# Altium integrated library Linear Technology Power Management LED Driver ICs.IntLib: 490 symbols (part 12 of 48)
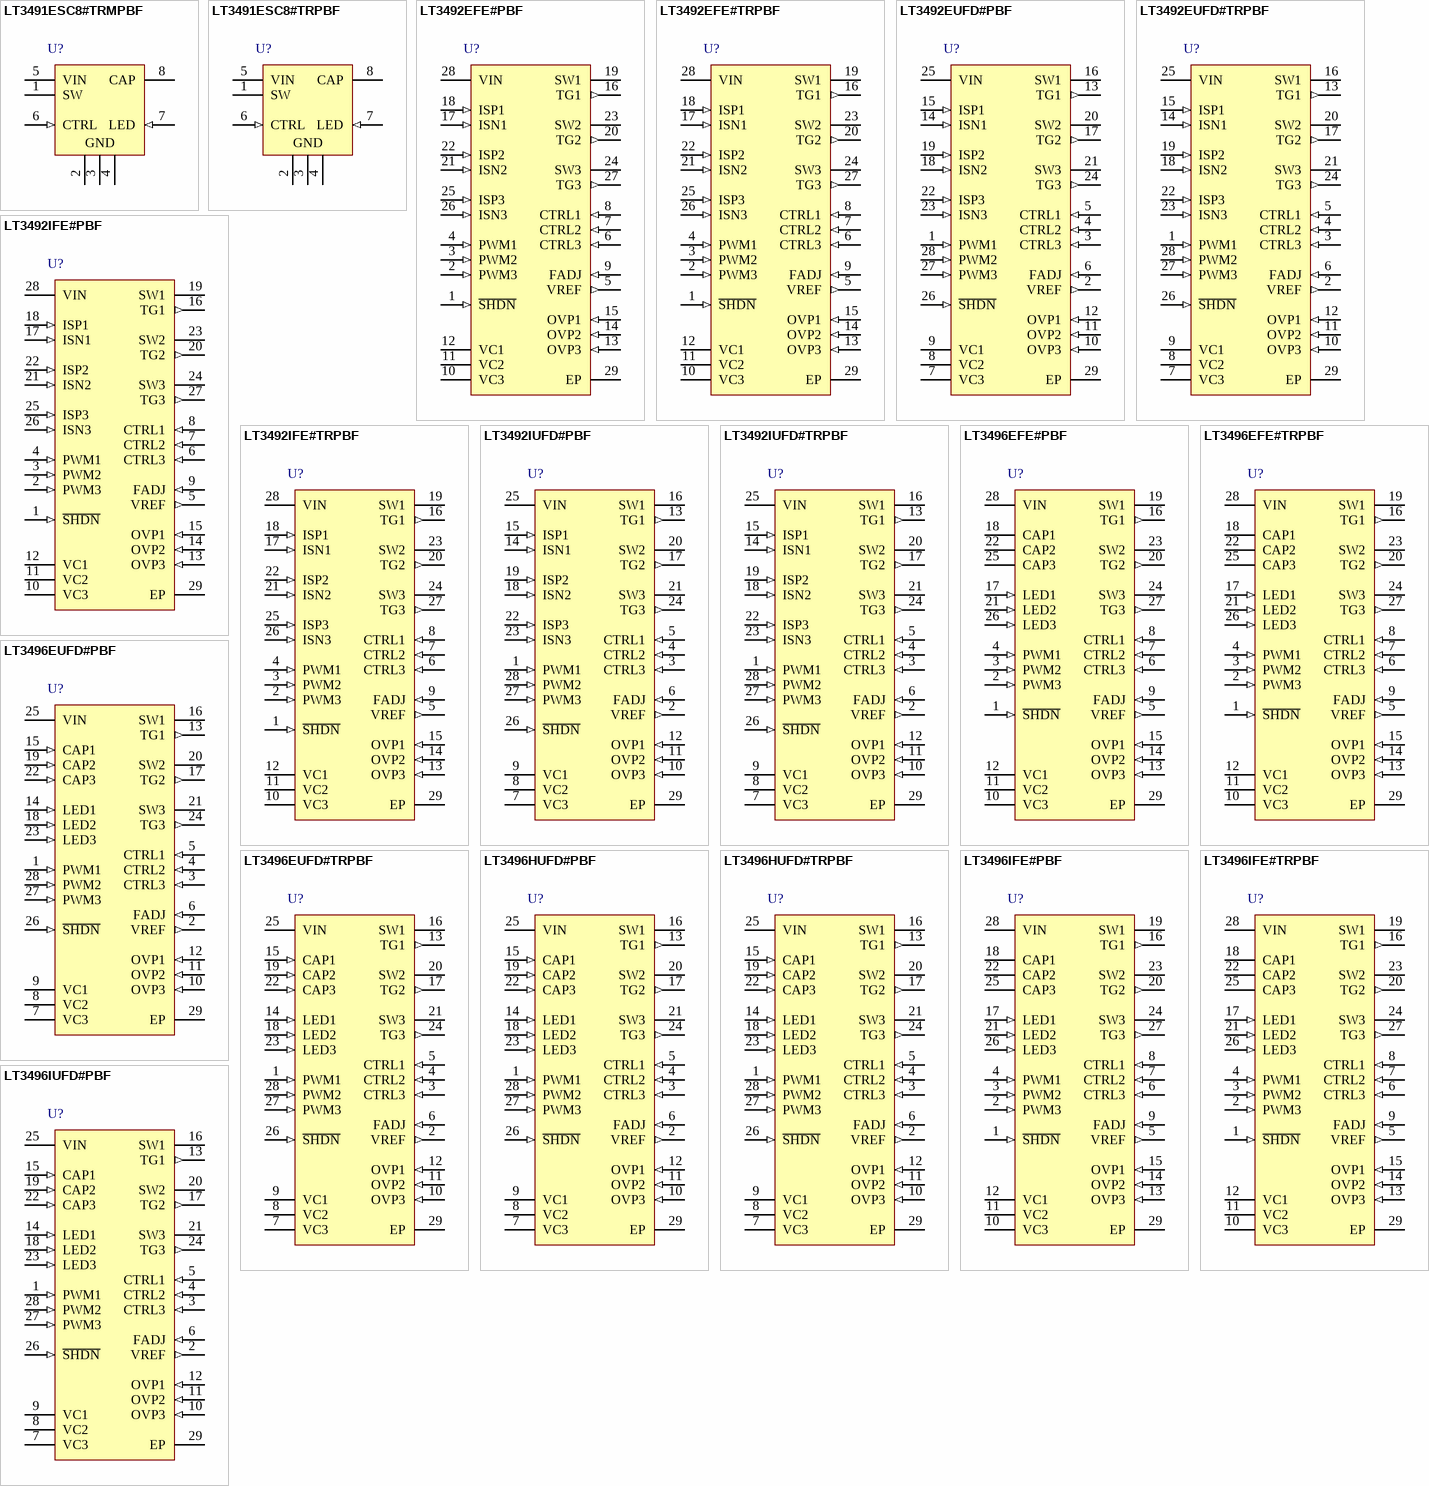
[diagram p31: symbols LT3491ESC8#TRMPBF to LT3496IUFD#PBF]

## LT3496EUFD#TRPBF
designator U?
Triple Output LED Driver, 3 to 30 V Vin, 45 V Vout MAX, 28-pin QFN (UFD-28), -40 to 125 degC, Pb-Free, Tape and Reel; Manufacturer: Linear Technology; PartNumber: LT3496EUFD#TRPBF; Topology: Boost, Buck, Buck-Boost, LED Driver; Vin Min(V): 3; DatasheetVersion: Rev. F; PackageVersion: Rev. B, 06/2010; PackageReference: UFD-28; PackageDescription: 28-Pin Plastic QFN, Body 5 x 4 mm, Pitch 0.5 mm; Supplier 1: Digi-Key; Supplier Part Number 1: LT3496EUFD#TRPBF-ND; Packing: Tape and Reel; RoHS: TRUE; Mounting Technology: Surface Mount; Code_JEDEC: MO-220; ComponentLink1Description: Manufacturer URL; ComponentLink1URL: http://www.linear.com/; ComponentLink2Description: Datasheet; ComponentLink2URL: http://cds.linear.com/docs/en/datasheet/3496ff.pdf; ComponentLink3Description: Package Specification; ComponentLink3URL: http://cds.linear.com/docs/en/packaging/QFN_28_05-08-1712.pdf
footprint LT-UFD-28_N (QFN, 28-Leads, Body 5.1x4.1mm, Pitch 0.5mm, Thermal Pad 3.65x2.65mm, IPC Medium Density)
footprint LT-UFD-28_L (QFN, 28-Leads, Body 5.1x4.1mm, Pitch 0.5mm, Thermal Pad 3.65x2.65mm, IPC High Density)
footprint LT-UFD-28_M (QFN, 28-Leads, Body 5.1x4.1mm, Pitch 0.5mm, Thermal Pad 3.65x2.65mm, IPC Low Density)
pins: 1 PWM1 (in) "Pulse Width Modulated Inputs. Signal low turns off the respective converter, reduces quiescent supply current and causes the VC pin for that converter to become high impedance. PWM pin must not be left floating; tie to VREF (See Datasheet)", 2 VREF (out) "Reference Output Pin. Can supply up to 200uA. The nominal Output Voltage is 2V.", 3 CTRL3 (in) "LED Current Adjustment Pins. Sets voltage across external sense resistor between CAP and LED pins of the respective converter. Setting CTRL voltage to be less than 1V will control the current sense voltage to be one-tenth of (See Datasheet)", 4 CTRL2 (in) "LED Current Adjustment Pins. Sets voltage across external sense resistor between CAP and LED pins of the respective converter. Setting CTRL voltage to be less than 1V will control the current sense voltage to be one-tenth of (See Datasheet)", 5 CTRL1 (in) "LED Current Adjustment Pins. Sets voltage across external sense resistor between CAP and LED pins of the respective converter. Setting CTRL voltage to be less than 1V will control the current sense voltage to be one-tenth of (See Datasheet)", 6 FADJ (in) "Switching Frequency Adjustment Pin. Setting fADJ voltage to be less than 1V will adjust switching frequency up to 2.1MHz. If fADJ voltage is higher than 1V, the default switching frequency is 2.1MHz. The fADJ pin must not be (See Datasheet)", 7 VC3 "Error Amplifier Compensation Pins. Connect a series RC from these pins to GND.", 8 VC2 "Error Amplifier Compensation Pins. Connect a series RC from these pins to GND.", 9 VC1 "Error Amplifier Compensation Pins. Connect a series RC from these pins to GND.", 10 OVP3 (in) "Open LED Protection Pins. A voltage higher than 1V on OVP turns off the internal main switch of the respective converter. Tie to ground if not used", 11 OVP2 (in) "Open LED Protection Pins. A voltage higher than 1V on OVP turns off the internal main switch of the respective converter. Tie to ground if not used", 12 OVP1 (in) "Open LED Protection Pins. A voltage higher than 1V on OVP turns off the internal main switch of the respective converter. Tie to ground if not used", 13 TG1 (out) "The Gate Driver Output Pins for Disconnnect P-Channel MOSFETs. One for each converter When the PWM pin is low, the TG pin pulls up to CAP to turn off the external MOSFET. When the PWM pin is high, the external MOSFET turn(See Datasheet)", 14 LED1 (in) "Noninverting Inputs of Current Sense Error Amplifiers. Connect directly to LED current sense resistor terminal for current sensing of the respective converter.", 15 CAP1 (in) "Inverting Inputs of Current Sense Error Amplifiers. Connect directly to other terminal of LED current sense resistor terminal of the respective converter.", 16 SW1 "Switch Pins. Collector of the internal NPN power switch of the respective converter. Connect to external inductor and anode of external Schottky rectifier of the respective converter. Minimize the metal trace area connected (See Datasheet)", 17 TG2 (out) "The Gate Driver Output Pins for Disconnnect P-Channel MOSFETs. One for each converter When the PWM pin is low, the TG pin pulls up to CAP to turn off the external MOSFET. When the PWM pin is high, the external MOSFET turn(See Datasheet)", 18 LED2 (in) "Noninverting Inputs of Current Sense Error Amplifiers. Connect directly to LED current sense resistor terminal for current sensing of the respective converter.", 19 CAP2 (in) "Inverting Inputs of Current Sense Error Amplifiers. Connect directly to other terminal of LED current sense resistor terminal of the respective converter.", 20 SW2 "Switch Pins. Collector of the internal NPN power switch of the respective converter. Connect to external inductor and anode of external Schottky rectifier of the respective converter. Minimize the metal trace area connected (See Datasheet)", 21 SW3 "Switch Pins. Collector of the internal NPN power switch of the respective converter. Connect to external inductor and anode of external Schottky rectifier of the respective converter. Minimize the metal trace area connected (See Datasheet)", 22 CAP3 (in) "Inverting Inputs of Current Sense Error Amplifiers. Connect directly to other terminal of LED current sense resistor terminal of the respective converter.", 23 LED3 (in) "Noninverting Inputs of Current Sense Error Amplifiers. Connect directly to LED current sense resistor terminal for current sensing of the respective converter.", 24 TG3 (out) "The Gate Driver Output Pins for Disconnnect P-Channel MOSFETs. One for each converter When the PWM pin is low, the TG pin pulls up to CAP to turn off the external MOSFET. When the PWM pin is high, the external MOSFET turn(See Datasheet)", 25 VIN (power) "Input Supply Pin. Must be locally bypassed. Powers the internal control circuitry.", 26 ~{SHDN} (in) "Shutdown Pin. Used to shut down the switching regulator and the internal bias circuits for all three converters. Tie to 1.5V or greater to enable the device. Tie below 0.4V to turn off the device.", 27 PWM3 (in) "Pulse Width Modulated Inputs. Signal low turns off the respective converter, reduces quiescent supply current and causes the VC pin for that converter to become high impedance. PWM pin must not be left floating; tie to VREF (See Datasheet)", 28 PWM2 (in) "Pulse Width Modulated Inputs. Signal low turns off the respective converter, reduces quiescent supply current and causes the VC pin for that converter to become high impedance. PWM pin must not be left floating; tie to VREF (See Datasheet)", 29 EP (power) "Signal Ground and Power Ground. Solder paddle directly to ground plane."

## LT3496HUFD#PBF
designator U?
Triple Output LED Driver, 3 to 30 V Vin, 45 V Vout MAX, 28-pin QFN (UFD-28), -40 to 150 degC, Pb-Free; Manufacturer: Linear Technology; PartNumber: LT3496HUFD#PBF; Topology: Boost, Buck, Buck-Boost, LED Driver; Vin Min(V): 3; DatasheetVersion: Rev. F; PackageVersion: Rev. B, 06/2010; PackageReference: UFD-28; PackageDescription: 28-Pin Plastic QFN, Body 5 x 4 mm, Pitch 0.5 mm; Supplier 1: Digi-Key; Supplier Part Number 1: LT3496HUFD#PBF-ND; Supplier 2: Newark; Supplier Part Number 2: 78R8456; RoHS: TRUE; Mounting Technology: Surface Mount; Code_JEDEC: MO-220; ComponentLink1Description: Manufacturer URL; ComponentLink1URL: http://www.linear.com/; ComponentLink2Description: Datasheet; ComponentLink2URL: http://cds.linear.com/docs/en/datasheet/3496ff.pdf; ComponentLink3Description: Package Specification; ComponentLink3URL: http://cds.linear.com/docs/en/packaging/QFN_28_05-08-1712.pdf
footprint LT-UFD-28_N (QFN, 28-Leads, Body 5.1x4.1mm, Pitch 0.5mm, Thermal Pad 3.65x2.65mm, IPC Medium Density)
footprint LT-UFD-28_L (QFN, 28-Leads, Body 5.1x4.1mm, Pitch 0.5mm, Thermal Pad 3.65x2.65mm, IPC High Density)
footprint LT-UFD-28_M (QFN, 28-Leads, Body 5.1x4.1mm, Pitch 0.5mm, Thermal Pad 3.65x2.65mm, IPC Low Density)
pins: 1 PWM1 (in) "Pulse Width Modulated Inputs. Signal low turns off the respective converter, reduces quiescent supply current and causes the VC pin for that converter to become high impedance. PWM pin must not be left floating; tie to VREF (See Datasheet)", 2 VREF (out) "Reference Output Pin. Can supply up to 200uA. The nominal Output Voltage is 2V.", 3 CTRL3 (in) "LED Current Adjustment Pins. Sets voltage across external sense resistor between CAP and LED pins of the respective converter. Setting CTRL voltage to be less than 1V will control the current sense voltage to be one-tenth of (See Datasheet)", 4 CTRL2 (in) "LED Current Adjustment Pins. Sets voltage across external sense resistor between CAP and LED pins of the respective converter. Setting CTRL voltage to be less than 1V will control the current sense voltage to be one-tenth of (See Datasheet)", 5 CTRL1 (in) "LED Current Adjustment Pins. Sets voltage across external sense resistor between CAP and LED pins of the respective converter. Setting CTRL voltage to be less than 1V will control the current sense voltage to be one-tenth of (See Datasheet)", 6 FADJ (in) "Switching Frequency Adjustment Pin. Setting fADJ voltage to be less than 1V will adjust switching frequency up to 2.1MHz. If fADJ voltage is higher than 1V, the default switching frequency is 2.1MHz. The fADJ pin must not be (See Datasheet)", 7 VC3 "Error Amplifier Compensation Pins. Connect a series RC from these pins to GND.", 8 VC2 "Error Amplifier Compensation Pins. Connect a series RC from these pins to GND.", 9 VC1 "Error Amplifier Compensation Pins. Connect a series RC from these pins to GND.", 10 OVP3 (in) "Open LED Protection Pins. A voltage higher than 1V on OVP turns off the internal main switch of the respective converter. Tie to ground if not used", 11 OVP2 (in) "Open LED Protection Pins. A voltage higher than 1V on OVP turns off the internal main switch of the respective converter. Tie to ground if not used", 12 OVP1 (in) "Open LED Protection Pins. A voltage higher than 1V on OVP turns off the internal main switch of the respective converter. Tie to ground if not used", 13 TG1 (out) "The Gate Driver Output Pins for Disconnnect P-Channel MOSFETs. One for each converter When the PWM pin is low, the TG pin pulls up to CAP to turn off the external MOSFET. When the PWM pin is high, the external MOSFET turn(See Datasheet)", 14 LED1 (in) "Noninverting Inputs of Current Sense Error Amplifiers. Connect directly to LED current sense resistor terminal for current sensing of the respective converter.", 15 CAP1 (in) "Inverting Inputs of Current Sense Error Amplifiers. Connect directly to other terminal of LED current sense resistor terminal of the respective converter.", 16 SW1 "Switch Pins. Collector of the internal NPN power switch of the respective converter. Connect to external inductor and anode of external Schottky rectifier of the respective converter. Minimize the metal trace area connected (See Datasheet)", 17 TG2 (out) "The Gate Driver Output Pins for Disconnnect P-Channel MOSFETs. One for each converter When the PWM pin is low, the TG pin pulls up to CAP to turn off the external MOSFET. When the PWM pin is high, the external MOSFET turn(See Datasheet)", 18 LED2 (in) "Noninverting Inputs of Current Sense Error Amplifiers. Connect directly to LED current sense resistor terminal for current sensing of the respective converter.", 19 CAP2 (in) "Inverting Inputs of Current Sense Error Amplifiers. Connect directly to other terminal of LED current sense resistor terminal of the respective converter.", 20 SW2 "Switch Pins. Collector of the internal NPN power switch of the respective converter. Connect to external inductor and anode of external Schottky rectifier of the respective converter. Minimize the metal trace area connected (See Datasheet)", 21 SW3 "Switch Pins. Collector of the internal NPN power switch of the respective converter. Connect to external inductor and anode of external Schottky rectifier of the respective converter. Minimize the metal trace area connected (See Datasheet)", 22 CAP3 (in) "Inverting Inputs of Current Sense Error Amplifiers. Connect directly to other terminal of LED current sense resistor terminal of the respective converter.", 23 LED3 (in) "Noninverting Inputs of Current Sense Error Amplifiers. Connect directly to LED current sense resistor terminal for current sensing of the respective converter.", 24 TG3 (out) "The Gate Driver Output Pins for Disconnnect P-Channel MOSFETs. One for each converter When the PWM pin is low, the TG pin pulls up to CAP to turn off the external MOSFET. When the PWM pin is high, the external MOSFET turn(See Datasheet)", 25 VIN (power) "Input Supply Pin. Must be locally bypassed. Powers the internal control circuitry.", 26 ~{SHDN} (in) "Shutdown Pin. Used to shut down the switching regulator and the internal bias circuits for all three converters. Tie to 1.5V or greater to enable the device. Tie below 0.4V to turn off the device.", 27 PWM3 (in) "Pulse Width Modulated Inputs. Signal low turns off the respective converter, reduces quiescent supply current and causes the VC pin for that converter to become high impedance. PWM pin must not be left floating; tie to VREF (See Datasheet)", 28 PWM2 (in) "Pulse Width Modulated Inputs. Signal low turns off the respective converter, reduces quiescent supply current and causes the VC pin for that converter to become high impedance. PWM pin must not be left floating; tie to VREF (See Datasheet)", 29 EP (power) "Signal Ground and Power Ground. Solder paddle directly to ground plane."

## LT3496HUFD#TRPBF
designator U?
Triple Output LED Driver, 3 to 30 V Vin, 45 V Vout MAX, 28-pin QFN (UFD-28), -40 to 150 degC, Pb-Free, Tape and Reel; Manufacturer: Linear Technology; PartNumber: LT3496HUFD#TRPBF; Topology: Boost, Buck, Buck-Boost, LED Driver; Vin Min(V): 3; DatasheetVersion: Rev. F; PackageVersion: Rev. B, 06/2010; PackageReference: UFD-28; PackageDescription: 28-Pin Plastic QFN, Body 5 x 4 mm, Pitch 0.5 mm; Supplier 1: Digi-Key; Supplier Part Number 1: LT3496HUFD#TRPBF-ND; Packing: Tape and Reel; RoHS: TRUE; Mounting Technology: Surface Mount; Code_JEDEC: MO-220; ComponentLink1Description: Manufacturer URL; ComponentLink1URL: http://www.linear.com/; ComponentLink2Description: Datasheet; ComponentLink2URL: http://cds.linear.com/docs/en/datasheet/3496ff.pdf; ComponentLink3Description: Package Specification; ComponentLink3URL: http://cds.linear.com/docs/en/packaging/QFN_28_05-08-1712.pdf
footprint LT-UFD-28_N (QFN, 28-Leads, Body 5.1x4.1mm, Pitch 0.5mm, Thermal Pad 3.65x2.65mm, IPC Medium Density)
footprint LT-UFD-28_L (QFN, 28-Leads, Body 5.1x4.1mm, Pitch 0.5mm, Thermal Pad 3.65x2.65mm, IPC High Density)
footprint LT-UFD-28_M (QFN, 28-Leads, Body 5.1x4.1mm, Pitch 0.5mm, Thermal Pad 3.65x2.65mm, IPC Low Density)
pins: 1 PWM1 (in) "Pulse Width Modulated Inputs. Signal low turns off the respective converter, reduces quiescent supply current and causes the VC pin for that converter to become high impedance. PWM pin must not be left floating; tie to VREF (See Datasheet)", 2 VREF (out) "Reference Output Pin. Can supply up to 200uA. The nominal Output Voltage is 2V.", 3 CTRL3 (in) "LED Current Adjustment Pins. Sets voltage across external sense resistor between CAP and LED pins of the respective converter. Setting CTRL voltage to be less than 1V will control the current sense voltage to be one-tenth of (See Datasheet)", 4 CTRL2 (in) "LED Current Adjustment Pins. Sets voltage across external sense resistor between CAP and LED pins of the respective converter. Setting CTRL voltage to be less than 1V will control the current sense voltage to be one-tenth of (See Datasheet)", 5 CTRL1 (in) "LED Current Adjustment Pins. Sets voltage across external sense resistor between CAP and LED pins of the respective converter. Setting CTRL voltage to be less than 1V will control the current sense voltage to be one-tenth of (See Datasheet)", 6 FADJ (in) "Switching Frequency Adjustment Pin. Setting fADJ voltage to be less than 1V will adjust switching frequency up to 2.1MHz. If fADJ voltage is higher than 1V, the default switching frequency is 2.1MHz. The fADJ pin must not be (See Datasheet)", 7 VC3 "Error Amplifier Compensation Pins. Connect a series RC from these pins to GND.", 8 VC2 "Error Amplifier Compensation Pins. Connect a series RC from these pins to GND.", 9 VC1 "Error Amplifier Compensation Pins. Connect a series RC from these pins to GND.", 10 OVP3 (in) "Open LED Protection Pins. A voltage higher than 1V on OVP turns off the internal main switch of the respective converter. Tie to ground if not used", 11 OVP2 (in) "Open LED Protection Pins. A voltage higher than 1V on OVP turns off the internal main switch of the respective converter. Tie to ground if not used", 12 OVP1 (in) "Open LED Protection Pins. A voltage higher than 1V on OVP turns off the internal main switch of the respective converter. Tie to ground if not used", 13 TG1 (out) "The Gate Driver Output Pins for Disconnnect P-Channel MOSFETs. One for each converter When the PWM pin is low, the TG pin pulls up to CAP to turn off the external MOSFET. When the PWM pin is high, the external MOSFET turn(See Datasheet)", 14 LED1 (in) "Noninverting Inputs of Current Sense Error Amplifiers. Connect directly to LED current sense resistor terminal for current sensing of the respective converter.", 15 CAP1 (in) "Inverting Inputs of Current Sense Error Amplifiers. Connect directly to other terminal of LED current sense resistor terminal of the respective converter.", 16 SW1 "Switch Pins. Collector of the internal NPN power switch of the respective converter. Connect to external inductor and anode of external Schottky rectifier of the respective converter. Minimize the metal trace area connected (See Datasheet)", 17 TG2 (out) "The Gate Driver Output Pins for Disconnnect P-Channel MOSFETs. One for each converter When the PWM pin is low, the TG pin pulls up to CAP to turn off the external MOSFET. When the PWM pin is high, the external MOSFET turn(See Datasheet)", 18 LED2 (in) "Noninverting Inputs of Current Sense Error Amplifiers. Connect directly to LED current sense resistor terminal for current sensing of the respective converter.", 19 CAP2 (in) "Inverting Inputs of Current Sense Error Amplifiers. Connect directly to other terminal of LED current sense resistor terminal of the respective converter.", 20 SW2 "Switch Pins. Collector of the internal NPN power switch of the respective converter. Connect to external inductor and anode of external Schottky rectifier of the respective converter. Minimize the metal trace area connected (See Datasheet)", 21 SW3 "Switch Pins. Collector of the internal NPN power switch of the respective converter. Connect to external inductor and anode of external Schottky rectifier of the respective converter. Minimize the metal trace area connected (See Datasheet)", 22 CAP3 (in) "Inverting Inputs of Current Sense Error Amplifiers. Connect directly to other terminal of LED current sense resistor terminal of the respective converter.", 23 LED3 (in) "Noninverting Inputs of Current Sense Error Amplifiers. Connect directly to LED current sense resistor terminal for current sensing of the respective converter.", 24 TG3 (out) "The Gate Driver Output Pins for Disconnnect P-Channel MOSFETs. One for each converter When the PWM pin is low, the TG pin pulls up to CAP to turn off the external MOSFET. When the PWM pin is high, the external MOSFET turn(See Datasheet)", 25 VIN (power) "Input Supply Pin. Must be locally bypassed. Powers the internal control circuitry.", 26 ~{SHDN} (in) "Shutdown Pin. Used to shut down the switching regulator and the internal bias circuits for all three converters. Tie to 1.5V or greater to enable the device. Tie below 0.4V to turn off the device.", 27 PWM3 (in) "Pulse Width Modulated Inputs. Signal low turns off the respective converter, reduces quiescent supply current and causes the VC pin for that converter to become high impedance. PWM pin must not be left floating; tie to VREF (See Datasheet)", 28 PWM2 (in) "Pulse Width Modulated Inputs. Signal low turns off the respective converter, reduces quiescent supply current and causes the VC pin for that converter to become high impedance. PWM pin must not be left floating; tie to VREF (See Datasheet)", 29 EP (power) "Signal Ground and Power Ground. Solder paddle directly to ground plane."

## LT3496IFE#PBF
designator U?
Triple Output LED Driver, 3 to 30 V Vin, 45 V Vout MAX, 28-pin SOP (FE-28-EPV-EB), -40 to 125 degC, Pb-Free; Manufacturer: Linear Technology; PartNumber: LT3496IFE#PBF; Topology: Boost, Buck, Buck-Boost, LED Driver; Vin Min(V): 3; DatasheetVersion: Rev. F; PackageVersion: Rev. J, 11/2012; PackageReference: FE-28; PackageDescription: 28-Pin Plastic TSSOP, Body 9.7 x 4.4 mm, Pitch 0.65 mm; Supplier 1: Digi-Key; Supplier Part Number 1: LT3496IFE#PBF-ND; Supplier 2: Newark; Supplier Part Number 2: 07P8434; RoHS: TRUE; Mounting Technology: Surface Mount; ComponentLink1Description: Manufacturer URL; ComponentLink1URL: http://www.linear.com/; ComponentLink2Description: Datasheet; ComponentLink2URL: http://cds.linear.com/docs/en/datasheet/3496ff.pdf; ComponentLink3Description: Package Specification; ComponentLink3URL: http://cds.linear.com/docs/en/packaging/05081663__J_FE28(EB).pdf
footprint LT-FE-28-EPV-EB_N (SOP, 28-Leads, Body 9.8x4.5mm, Pitch 0.65mm, Thermal Pad 4.75x2.74mm, IPC Medium Density)
footprint LT-FE-28-EPV-EB_L (SOP, 28-Leads, Body 9.8x4.5mm, Pitch 0.65mm, Thermal Pad 4.75x2.74mm, IPC High Density)
footprint LT-FE-28-EPV-EB_M (SOP, 28-Leads, Body 9.8x4.5mm, Pitch 0.65mm, Thermal Pad 4.75x2.74mm, IPC Low Density)
pins: 1 ~{SHDN} (in) "Shutdown Pin. Used to shut down the switching regulator and the internal bias circuits for all three converters. Tie to 1.5V or greater to enable the device. Tie below 0.4V to turn off the device.", 2 PWM3 (in) "Pulse Width Modulated Inputs. Signal low turns off the respective converter, reduces quiescent supply current and causes the VC pin for that converter to become high impedance. PWM pin must not be left floating; tie to VREF (See Datasheet)", 3 PWM2 (in) "Pulse Width Modulated Inputs. Signal low turns off the respective converter, reduces quiescent supply current and causes the VC pin for that converter to become high impedance. PWM pin must not be left floating; tie to VREF (See Datasheet)", 4 PWM1 (in) "Pulse Width Modulated Inputs. Signal low turns off the respective converter, reduces quiescent supply current and causes the VC pin for that converter to become high impedance. PWM pin must not be left floating; tie to VREF (See Datasheet)", 5 VREF (out) "Reference Output Pin. Can supply up to 200uA. The nominal Output Voltage is 2V.", 6 CTRL3 (in) "LED Current Adjustment Pins. Sets voltage across external sense resistor between CAP and LED pins of the respective converter. Setting CTRL voltage to be less than 1V will control the current sense voltage to be one-tenth of (See Datasheet)", 7 CTRL2 (in) "LED Current Adjustment Pins. Sets voltage across external sense resistor between CAP and LED pins of the respective converter. Setting CTRL voltage to be less than 1V will control the current sense voltage to be one-tenth of (See Datasheet)", 8 CTRL1 (in) "LED Current Adjustment Pins. Sets voltage across external sense resistor between CAP and LED pins of the respective converter. Setting CTRL voltage to be less than 1V will control the current sense voltage to be one-tenth of (See Datasheet)", 9 FADJ (in) "Switching Frequency Adjustment Pin. Setting FADJ voltage to be less than 1V will adjust switching frequency up to 2.1MHz. If FADJ voltage is higher than 1V, the default switching frequency is 2.1MHz. The FADJ pin must not be (See Datasheet)", 10 VC3 "Error Amplifier Compensation Pins. Connect a series RC from these pins to GND.", 11 VC2 "Error Amplifier Compensation Pins. Connect a series RC from these pins to GND.", 12 VC1 "Error Amplifier Compensation Pins. Connect a series RC from these pins to GND.", 13 OVP3 (in) "Open LED Protection Pins. A voltage higher than 1V on OVP turns off the internal main switch of the respective converter. Tie to ground if not used.", 14 OVP2 (in) "Open LED Protection Pins. A voltage higher than 1V on OVP turns off the internal main switch of the respective converter. Tie to ground if not used.", 15 OVP1 (in) "Open LED Protection Pins. A voltage higher than 1V on OVP turns off the internal main switch of the respective converter. Tie to ground if not used.", 16 TG1 (out) "The Gate Driver Output Pins for Disconnnect P-Channel MOSFETs. One for each converter. When the PWM pin is low, the TG pin pulls up to CAP to turn off the external MOSFET. When the PWM pin is high, the external MOSFE(See Datasheet)", 17 LED1 (in) "Noninverting Inputs of Current Sense Error Amplifiers. Connect directly to LED current sense resistor terminal for current sensing of the respective converter.", 18 CAP1 "Inverting Inputs of Current Sense Error Amplifiers. Connect directly to other terminal of LED current sense resistor terminal of the respective converter.", 19 SW1 (power) "Switch Pins. Collector of the internal NPN power switch of the respective converter. Connect to external inductor and anode of external Schottky rectifier of the respective converter. Minimize the metal trace area connected (See Datasheet)", 20 TG2 (out) "The Gate Driver Output Pins for Disconnnect P-Channel MOSFETs. One for each converter. When the PWM pin is low, the TG pin pulls up to CAP to turn off the external MOSFET. When the PWM pin is high, the external MOSFE(See Datasheet)", 21 LED2 (in) "Noninverting Inputs of Current Sense Error Amplifiers. Connect directly to LED current sense resistor terminal for current sensing of the respective converter.", 22 CAP2 "Inverting Inputs of Current Sense Error Amplifiers. Connect directly to other terminal of LED current sense resistor terminal of the respective converter.", 23 SW2 (power) "Switch Pins. Collector of the internal NPN power switch of the respective converter. Connect to external inductor and anode of external Schottky rectifier of the respective converter. Minimize the metal trace area connected (See Datasheet)", 24 SW3 (power) "Switch Pins. Collector of the internal NPN power switch of the respective converter. Connect to external inductor and anode of external Schottky rectifier of the respective converter. Minimize the metal trace area connected (See Datasheet)", 25 CAP3 "Inverting Inputs of Current Sense Error Amplifiers. Connect directly to other terminal of LED current sense resistor terminal of the respective converter.", 26 LED3 (in) "Noninverting Inputs of Current Sense Error Amplifiers. Connect directly to LED current sense resistor terminal for current sensing of the respective converter.", 27 TG3 (out) "The Gate Driver Output Pins for Disconnnect P-Channel MOSFETs. One for each converter. When the PWM pin is low, the TG pin pulls up to CAP to turn off the external MOSFET. When the PWM pin is high, the external MOSFE(See Datasheet)", 28 VIN (power) "Input Supply Pin. Must be locally bypassed. Powers the internal control circuitry.", 29 EP (power) "Signal Ground and Power Ground. Solder paddle directly to ground plane."

## LT3496IFE#TRPBF
designator U?
Triple Output LED Driver, 3 to 30 V Vin, 45 V Vout MAX, 28-pin SOP (FE-28-EPV-EB), -40 to 125 degC, Pb-Free, Tape and Reel; Manufacturer: Linear Technology; PartNumber: LT3496IFE#TRPBF; Topology: Boost, Buck, Buck-Boost, LED Driver; Vin Min(V): 3; DatasheetVersion: Rev. F; PackageVersion: Rev. J, 11/2012; PackageReference: FE-28; PackageDescription: 28-Pin Plastic TSSOP, Body 9.7 x 4.4 mm, Pitch 0.65 mm; Supplier 1: Digi-Key; Supplier Part Number 1: LT3496IFE#TRPBF-ND; Packing: Tape and Reel; RoHS: TRUE; Mounting Technology: Surface Mount; ComponentLink1Description: Manufacturer URL; ComponentLink1URL: http://www.linear.com/; ComponentLink2Description: Datasheet; ComponentLink2URL: http://cds.linear.com/docs/en/datasheet/3496ff.pdf; ComponentLink3Description: Package Specification; ComponentLink3URL: http://cds.linear.com/docs/en/packaging/05081663__J_FE28(EB).pdf
footprint LT-FE-28-EPV-EB_N (SOP, 28-Leads, Body 9.8x4.5mm, Pitch 0.65mm, Thermal Pad 4.75x2.74mm, IPC Medium Density)
footprint LT-FE-28-EPV-EB_L (SOP, 28-Leads, Body 9.8x4.5mm, Pitch 0.65mm, Thermal Pad 4.75x2.74mm, IPC High Density)
footprint LT-FE-28-EPV-EB_M (SOP, 28-Leads, Body 9.8x4.5mm, Pitch 0.65mm, Thermal Pad 4.75x2.74mm, IPC Low Density)
pins: 1 ~{SHDN} (in) "Shutdown Pin. Used to shut down the switching regulator and the internal bias circuits for all three converters. Tie to 1.5V or greater to enable the device. Tie below 0.4V to turn off the device.", 2 PWM3 (in) "Pulse Width Modulated Inputs. Signal low turns off the respective converter, reduces quiescent supply current and causes the VC pin for that converter to become high impedance. PWM pin must not be left floating; tie to VREF (See Datasheet)", 3 PWM2 (in) "Pulse Width Modulated Inputs. Signal low turns off the respective converter, reduces quiescent supply current and causes the VC pin for that converter to become high impedance. PWM pin must not be left floating; tie to VREF (See Datasheet)", 4 PWM1 (in) "Pulse Width Modulated Inputs. Signal low turns off the respective converter, reduces quiescent supply current and causes the VC pin for that converter to become high impedance. PWM pin must not be left floating; tie to VREF (See Datasheet)", 5 VREF (out) "Reference Output Pin. Can supply up to 200uA. The nominal Output Voltage is 2V.", 6 CTRL3 (in) "LED Current Adjustment Pins. Sets voltage across external sense resistor between CAP and LED pins of the respective converter. Setting CTRL voltage to be less than 1V will control the current sense voltage to be one-tenth of (See Datasheet)", 7 CTRL2 (in) "LED Current Adjustment Pins. Sets voltage across external sense resistor between CAP and LED pins of the respective converter. Setting CTRL voltage to be less than 1V will control the current sense voltage to be one-tenth of (See Datasheet)", 8 CTRL1 (in) "LED Current Adjustment Pins. Sets voltage across external sense resistor between CAP and LED pins of the respective converter. Setting CTRL voltage to be less than 1V will control the current sense voltage to be one-tenth of (See Datasheet)", 9 FADJ (in) "Switching Frequency Adjustment Pin. Setting FADJ voltage to be less than 1V will adjust switching frequency up to 2.1MHz. If FADJ voltage is higher than 1V, the default switching frequency is 2.1MHz. The FADJ pin must not be (See Datasheet)", 10 VC3 "Error Amplifier Compensation Pins. Connect a series RC from these pins to GND.", 11 VC2 "Error Amplifier Compensation Pins. Connect a series RC from these pins to GND.", 12 VC1 "Error Amplifier Compensation Pins. Connect a series RC from these pins to GND.", 13 OVP3 (in) "Open LED Protection Pins. A voltage higher than 1V on OVP turns off the internal main switch of the respective converter. Tie to ground if not used.", 14 OVP2 (in) "Open LED Protection Pins. A voltage higher than 1V on OVP turns off the internal main switch of the respective converter. Tie to ground if not used.", 15 OVP1 (in) "Open LED Protection Pins. A voltage higher than 1V on OVP turns off the internal main switch of the respective converter. Tie to ground if not used.", 16 TG1 (out) "The Gate Driver Output Pins for Disconnnect P-Channel MOSFETs. One for each converter. When the PWM pin is low, the TG pin pulls up to CAP to turn off the external MOSFET. When the PWM pin is high, the external MOSFE(See Datasheet)", 17 LED1 (in) "Noninverting Inputs of Current Sense Error Amplifiers. Connect directly to LED current sense resistor terminal for current sensing of the respective converter.", 18 CAP1 "Inverting Inputs of Current Sense Error Amplifiers. Connect directly to other terminal of LED current sense resistor terminal of the respective converter.", 19 SW1 (power) "Switch Pins. Collector of the internal NPN power switch of the respective converter. Connect to external inductor and anode of external Schottky rectifier of the respective converter. Minimize the metal trace area connected (See Datasheet)", 20 TG2 (out) "The Gate Driver Output Pins for Disconnnect P-Channel MOSFETs. One for each converter. When the PWM pin is low, the TG pin pulls up to CAP to turn off the external MOSFET. When the PWM pin is high, the external MOSFE(See Datasheet)", 21 LED2 (in) "Noninverting Inputs of Current Sense Error Amplifiers. Connect directly to LED current sense resistor terminal for current sensing of the respective converter.", 22 CAP2 "Inverting Inputs of Current Sense Error Amplifiers. Connect directly to other terminal of LED current sense resistor terminal of the respective converter.", 23 SW2 (power) "Switch Pins. Collector of the internal NPN power switch of the respective converter. Connect to external inductor and anode of external Schottky rectifier of the respective converter. Minimize the metal trace area connected (See Datasheet)", 24 SW3 (power) "Switch Pins. Collector of the internal NPN power switch of the respective converter. Connect to external inductor and anode of external Schottky rectifier of the respective converter. Minimize the metal trace area connected (See Datasheet)", 25 CAP3 "Inverting Inputs of Current Sense Error Amplifiers. Connect directly to other terminal of LED current sense resistor terminal of the respective converter.", 26 LED3 (in) "Noninverting Inputs of Current Sense Error Amplifiers. Connect directly to LED current sense resistor terminal for current sensing of the respective converter.", 27 TG3 (out) "The Gate Driver Output Pins for Disconnnect P-Channel MOSFETs. One for each converter. When the PWM pin is low, the TG pin pulls up to CAP to turn off the external MOSFET. When the PWM pin is high, the external MOSFE(See Datasheet)", 28 VIN (power) "Input Supply Pin. Must be locally bypassed. Powers the internal control circuitry.", 29 EP (power) "Signal Ground and Power Ground. Solder paddle directly to ground plane."

## LT3496IUFD#PBF
designator U?
Triple Output LED Driver, 3 to 30 V Vin, 45 V Vout MAX, 28-pin QFN (UFD-28), -40 to 125 degC, Pb-Free; Manufacturer: Linear Technology; PartNumber: LT3496IUFD#PBF; Topology: Boost, Buck, Buck-Boost, LED Driver; Vin Min(V): 3; DatasheetVersion: Rev. F; PackageVersion: Rev. B, 06/2010; PackageReference: UFD-28; PackageDescription: 28-Pin Plastic QFN, Body 5 x 4 mm, Pitch 0.5 mm; Supplier 1: Digi-Key; Supplier Part Number 1: LT3496IUFD#PBF-ND; Supplier 2: Farnell; Supplier Part Number 2: 1663566; Supplier 3: Newark; Supplier Part Number 3: 57M8442; RoHS: TRUE; Mounting Technology: Surface Mount; Code_JEDEC: MO-220; ComponentLink1Description: Manufacturer URL; ComponentLink1URL: http://www.linear.com/; ComponentLink2Description: Datasheet; ComponentLink2URL: http://cds.linear.com/docs/en/datasheet/3496ff.pdf; ComponentLink3Description: Package Specification; ComponentLink3URL: http://cds.linear.com/docs/en/packaging/QFN_28_05-08-1712.pdf
footprint LT-UFD-28_N (QFN, 28-Leads, Body 5.1x4.1mm, Pitch 0.5mm, Thermal Pad 3.65x2.65mm, IPC Medium Density)
footprint LT-UFD-28_L (QFN, 28-Leads, Body 5.1x4.1mm, Pitch 0.5mm, Thermal Pad 3.65x2.65mm, IPC High Density)
footprint LT-UFD-28_M (QFN, 28-Leads, Body 5.1x4.1mm, Pitch 0.5mm, Thermal Pad 3.65x2.65mm, IPC Low Density)
pins: 1 PWM1 (in) "Pulse Width Modulated Inputs. Signal low turns off the respective converter, reduces quiescent supply current and causes the VC pin for that converter to become high impedance. PWM pin must not be left floating; tie to VREF (See Datasheet)", 2 VREF (out) "Reference Output Pin. Can supply up to 200uA. The nominal Output Voltage is 2V.", 3 CTRL3 (in) "LED Current Adjustment Pins. Sets voltage across external sense resistor between CAP and LED pins of the respective converter. Setting CTRL voltage to be less than 1V will control the current sense voltage to be one-tenth of (See Datasheet)", 4 CTRL2 (in) "LED Current Adjustment Pins. Sets voltage across external sense resistor between CAP and LED pins of the respective converter. Setting CTRL voltage to be less than 1V will control the current sense voltage to be one-tenth of (See Datasheet)", 5 CTRL1 (in) "LED Current Adjustment Pins. Sets voltage across external sense resistor between CAP and LED pins of the respective converter. Setting CTRL voltage to be less than 1V will control the current sense voltage to be one-tenth of (See Datasheet)", 6 FADJ (in) "Switching Frequency Adjustment Pin. Setting fADJ voltage to be less than 1V will adjust switching frequency up to 2.1MHz. If fADJ voltage is higher than 1V, the default switching frequency is 2.1MHz. The fADJ pin must not be (See Datasheet)", 7 VC3 "Error Amplifier Compensation Pins. Connect a series RC from these pins to GND.", 8 VC2 "Error Amplifier Compensation Pins. Connect a series RC from these pins to GND.", 9 VC1 "Error Amplifier Compensation Pins. Connect a series RC from these pins to GND.", 10 OVP3 (in) "Open LED Protection Pins. A voltage higher than 1V on OVP turns off the internal main switch of the respective converter. Tie to ground if not used", 11 OVP2 (in) "Open LED Protection Pins. A voltage higher than 1V on OVP turns off the internal main switch of the respective converter. Tie to ground if not used", 12 OVP1 (in) "Open LED Protection Pins. A voltage higher than 1V on OVP turns off the internal main switch of the respective converter. Tie to ground if not used", 13 TG1 (out) "The Gate Driver Output Pins for Disconnnect P-Channel MOSFETs. One for each converter When the PWM pin is low, the TG pin pulls up to CAP to turn off the external MOSFET. When the PWM pin is high, the external MOSFET turn(See Datasheet)", 14 LED1 (in) "Noninverting Inputs of Current Sense Error Amplifiers. Connect directly to LED current sense resistor terminal for current sensing of the respective converter.", 15 CAP1 (in) "Inverting Inputs of Current Sense Error Amplifiers. Connect directly to other terminal of LED current sense resistor terminal of the respective converter.", 16 SW1 "Switch Pins. Collector of the internal NPN power switch of the respective converter. Connect to external inductor and anode of external Schottky rectifier of the respective converter. Minimize the metal trace area connected (See Datasheet)", 17 TG2 (out) "The Gate Driver Output Pins for Disconnnect P-Channel MOSFETs. One for each converter When the PWM pin is low, the TG pin pulls up to CAP to turn off the external MOSFET. When the PWM pin is high, the external MOSFET turn(See Datasheet)", 18 LED2 (in) "Noninverting Inputs of Current Sense Error Amplifiers. Connect directly to LED current sense resistor terminal for current sensing of the respective converter.", 19 CAP2 (in) "Inverting Inputs of Current Sense Error Amplifiers. Connect directly to other terminal of LED current sense resistor terminal of the respective converter.", 20 SW2 "Switch Pins. Collector of the internal NPN power switch of the respective converter. Connect to external inductor and anode of external Schottky rectifier of the respective converter. Minimize the metal trace area connected (See Datasheet)", 21 SW3 "Switch Pins. Collector of the internal NPN power switch of the respective converter. Connect to external inductor and anode of external Schottky rectifier of the respective converter. Minimize the metal trace area connected (See Datasheet)", 22 CAP3 (in) "Inverting Inputs of Current Sense Error Amplifiers. Connect directly to other terminal of LED current sense resistor terminal of the respective converter.", 23 LED3 (in) "Noninverting Inputs of Current Sense Error Amplifiers. Connect directly to LED current sense resistor terminal for current sensing of the respective converter.", 24 TG3 (out) "The Gate Driver Output Pins for Disconnnect P-Channel MOSFETs. One for each converter When the PWM pin is low, the TG pin pulls up to CAP to turn off the external MOSFET. When the PWM pin is high, the external MOSFET turn(See Datasheet)", 25 VIN (power) "Input Supply Pin. Must be locally bypassed. Powers the internal control circuitry.", 26 ~{SHDN} (in) "Shutdown Pin. Used to shut down the switching regulator and the internal bias circuits for all three converters. Tie to 1.5V or greater to enable the device. Tie below 0.4V to turn off the device.", 27 PWM3 (in) "Pulse Width Modulated Inputs. Signal low turns off the respective converter, reduces quiescent supply current and causes the VC pin for that converter to become high impedance. PWM pin must not be left floating; tie to VREF (See Datasheet)", 28 PWM2 (in) "Pulse Width Modulated Inputs. Signal low turns off the respective converter, reduces quiescent supply current and causes the VC pin for that converter to become high impedance. PWM pin must not be left floating; tie to VREF (See Datasheet)", 29 EP (power) "Signal Ground and Power Ground. Solder paddle directly to ground plane."

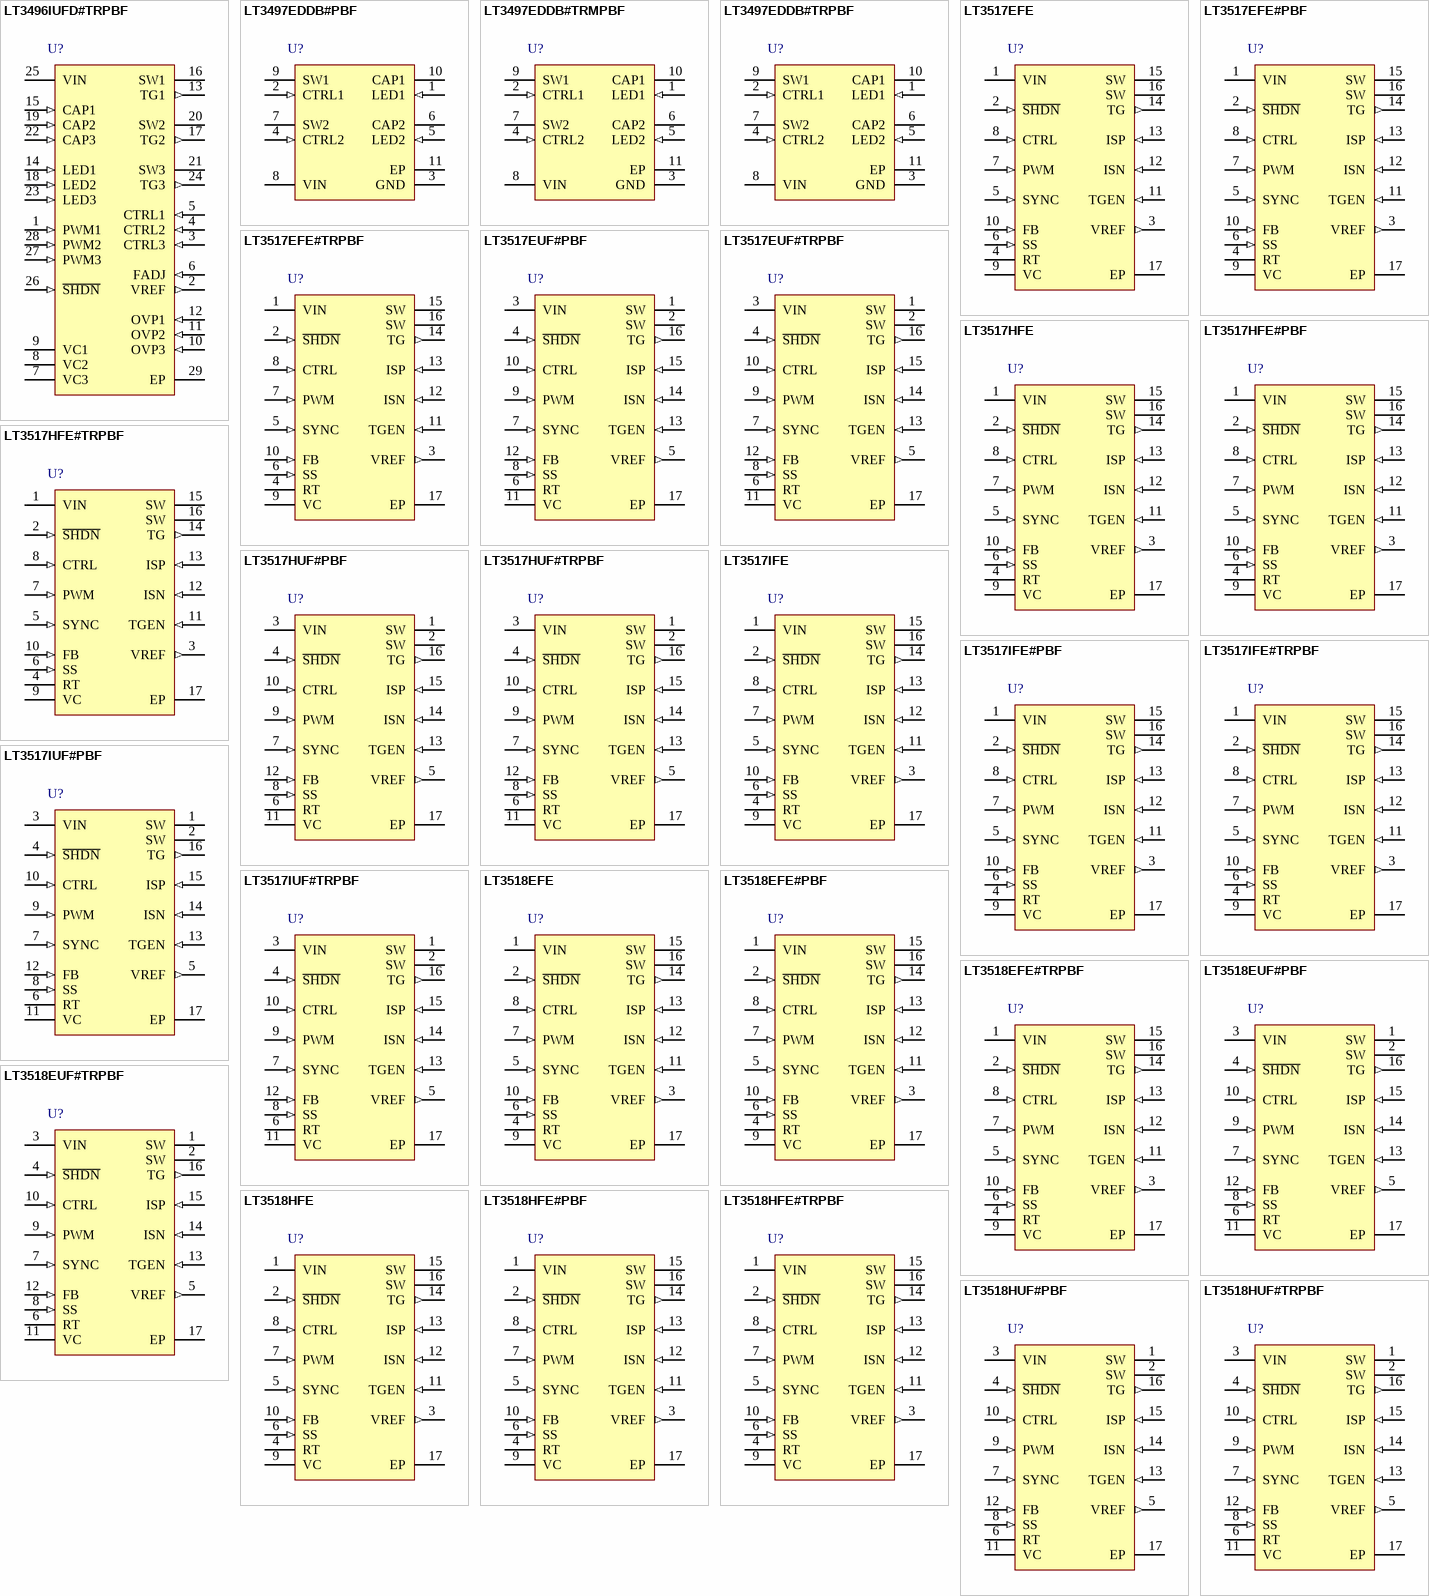
[diagram p5: symbols LT3496IUFD#TRPBF to LT3518HUF#TRPBF]

## LT3496IUFD#TRPBF
designator U?
Triple Output LED Driver, 3 to 30 V Vin, 45 V Vout MAX, 28-pin QFN (UFD-28), -40 to 125 degC, Pb-Free, Tape and Reel; Manufacturer: Linear Technology; PartNumber: LT3496IUFD#TRPBF; Topology: Boost, Buck, Buck-Boost, LED Driver; Vin Min(V): 3; DatasheetVersion: Rev. F; PackageVersion: Rev. B, 06/2010; PackageReference: UFD-28; PackageDescription: 28-Pin Plastic QFN, Body 5 x 4 mm, Pitch 0.5 mm; Supplier 1: Digi-Key; Supplier Part Number 1: LT3496IUFD#TRPBF-ND; Packing: Tape and Reel; RoHS: TRUE; Mounting Technology: Surface Mount; Code_JEDEC: MO-220; ComponentLink1Description: Manufacturer URL; ComponentLink1URL: http://www.linear.com/; ComponentLink2Description: Datasheet; ComponentLink2URL: http://cds.linear.com/docs/en/datasheet/3496ff.pdf; ComponentLink3Description: Package Specification; ComponentLink3URL: http://cds.linear.com/docs/en/packaging/QFN_28_05-08-1712.pdf
footprint LT-UFD-28_N (QFN, 28-Leads, Body 5.1x4.1mm, Pitch 0.5mm, Thermal Pad 3.65x2.65mm, IPC Medium Density)
footprint LT-UFD-28_L (QFN, 28-Leads, Body 5.1x4.1mm, Pitch 0.5mm, Thermal Pad 3.65x2.65mm, IPC High Density)
footprint LT-UFD-28_M (QFN, 28-Leads, Body 5.1x4.1mm, Pitch 0.5mm, Thermal Pad 3.65x2.65mm, IPC Low Density)
pins: 1 PWM1 (in) "Pulse Width Modulated Inputs. Signal low turns off the respective converter, reduces quiescent supply current and causes the VC pin for that converter to become high impedance. PWM pin must not be left floating; tie to VREF (See Datasheet)", 2 VREF (out) "Reference Output Pin. Can supply up to 200uA. The nominal Output Voltage is 2V.", 3 CTRL3 (in) "LED Current Adjustment Pins. Sets voltage across external sense resistor between CAP and LED pins of the respective converter. Setting CTRL voltage to be less than 1V will control the current sense voltage to be one-tenth of (See Datasheet)", 4 CTRL2 (in) "LED Current Adjustment Pins. Sets voltage across external sense resistor between CAP and LED pins of the respective converter. Setting CTRL voltage to be less than 1V will control the current sense voltage to be one-tenth of (See Datasheet)", 5 CTRL1 (in) "LED Current Adjustment Pins. Sets voltage across external sense resistor between CAP and LED pins of the respective converter. Setting CTRL voltage to be less than 1V will control the current sense voltage to be one-tenth of (See Datasheet)", 6 FADJ (in) "Switching Frequency Adjustment Pin. Setting fADJ voltage to be less than 1V will adjust switching frequency up to 2.1MHz. If fADJ voltage is higher than 1V, the default switching frequency is 2.1MHz. The fADJ pin must not be (See Datasheet)", 7 VC3 "Error Amplifier Compensation Pins. Connect a series RC from these pins to GND.", 8 VC2 "Error Amplifier Compensation Pins. Connect a series RC from these pins to GND.", 9 VC1 "Error Amplifier Compensation Pins. Connect a series RC from these pins to GND.", 10 OVP3 (in) "Open LED Protection Pins. A voltage higher than 1V on OVP turns off the internal main switch of the respective converter. Tie to ground if not used", 11 OVP2 (in) "Open LED Protection Pins. A voltage higher than 1V on OVP turns off the internal main switch of the respective converter. Tie to ground if not used", 12 OVP1 (in) "Open LED Protection Pins. A voltage higher than 1V on OVP turns off the internal main switch of the respective converter. Tie to ground if not used", 13 TG1 (out) "The Gate Driver Output Pins for Disconnnect P-Channel MOSFETs. One for each converter When the PWM pin is low, the TG pin pulls up to CAP to turn off the external MOSFET. When the PWM pin is high, the external MOSFET turn(See Datasheet)", 14 LED1 (in) "Noninverting Inputs of Current Sense Error Amplifiers. Connect directly to LED current sense resistor terminal for current sensing of the respective converter.", 15 CAP1 (in) "Inverting Inputs of Current Sense Error Amplifiers. Connect directly to other terminal of LED current sense resistor terminal of the respective converter.", 16 SW1 "Switch Pins. Collector of the internal NPN power switch of the respective converter. Connect to external inductor and anode of external Schottky rectifier of the respective converter. Minimize the metal trace area connected (See Datasheet)", 17 TG2 (out) "The Gate Driver Output Pins for Disconnnect P-Channel MOSFETs. One for each converter When the PWM pin is low, the TG pin pulls up to CAP to turn off the external MOSFET. When the PWM pin is high, the external MOSFET turn(See Datasheet)", 18 LED2 (in) "Noninverting Inputs of Current Sense Error Amplifiers. Connect directly to LED current sense resistor terminal for current sensing of the respective converter.", 19 CAP2 (in) "Inverting Inputs of Current Sense Error Amplifiers. Connect directly to other terminal of LED current sense resistor terminal of the respective converter.", 20 SW2 "Switch Pins. Collector of the internal NPN power switch of the respective converter. Connect to external inductor and anode of external Schottky rectifier of the respective converter. Minimize the metal trace area connected (See Datasheet)", 21 SW3 "Switch Pins. Collector of the internal NPN power switch of the respective converter. Connect to external inductor and anode of external Schottky rectifier of the respective converter. Minimize the metal trace area connected (See Datasheet)", 22 CAP3 (in) "Inverting Inputs of Current Sense Error Amplifiers. Connect directly to other terminal of LED current sense resistor terminal of the respective converter.", 23 LED3 (in) "Noninverting Inputs of Current Sense Error Amplifiers. Connect directly to LED current sense resistor terminal for current sensing of the respective converter.", 24 TG3 (out) "The Gate Driver Output Pins for Disconnnect P-Channel MOSFETs. One for each converter When the PWM pin is low, the TG pin pulls up to CAP to turn off the external MOSFET. When the PWM pin is high, the external MOSFET turn(See Datasheet)", 25 VIN (power) "Input Supply Pin. Must be locally bypassed. Powers the internal control circuitry.", 26 ~{SHDN} (in) "Shutdown Pin. Used to shut down the switching regulator and the internal bias circuits for all three converters. Tie to 1.5V or greater to enable the device. Tie below 0.4V to turn off the device.", 27 PWM3 (in) "Pulse Width Modulated Inputs. Signal low turns off the respective converter, reduces quiescent supply current and causes the VC pin for that converter to become high impedance. PWM pin must not be left floating; tie to VREF (See Datasheet)", 28 PWM2 (in) "Pulse Width Modulated Inputs. Signal low turns off the respective converter, reduces quiescent supply current and causes the VC pin for that converter to become high impedance. PWM pin must not be left floating; tie to VREF (See Datasheet)", 29 EP (power) "Signal Ground and Power Ground. Solder paddle directly to ground plane."